# EAGLE library part 62533420621 (library Wurth_Elektronik_Electromechanic_Wire_to_Board_Connectors_rev15c)
WR-BHD 2.00mm Male SMT Box Header High Temperature, 34 Pins=>Code : Con_WTB_BHD_2.00_Male_SMT_62533420621 <http://katalog.we-online.de/media/thumbs2/eican/thb_Con_WTB_BHD_2.00_Male_SMT_6253xx20621_pf2.jpg> Details see: http://katalog.we-online.de/en/em/625_3xx_206_21 Created 2014-06-05, Karrer Zheng 2014 (C) Würth Elektronik
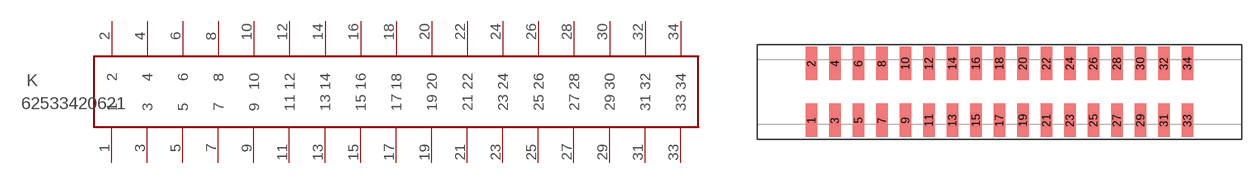
[diagram p271: symbol with the pads of 62533420621; footprint 62533420621]

Designator prefix K

## 62533420621  [62533420621]
1  1  pas
2  2  pas
3  3  pas
4  4  pas
5  5  pas
6  6  pas
7  7  pas
8  8  pas
9  9  pas
10  10  pas
11  11  pas
12  12  pas
13  13  pas
14  14  pas
15  15  pas
16  16  pas
17  17  pas
18  18  pas
19  19  pas
20  20  pas
21  21  pas
22  22  pas
23  23  pas
24  24  pas
25  25  pas
26  26  pas
27  27  pas
28  28  pas
29  29  pas
30  30  pas
31  31  pas
32  32  pas
33  33  pas
34  34  pas

## Footprint 62533420621 (pad centres in mm)
WRBHD-2.00mm Male SMT Box Header High Temperature,34 pins
smd 1 x 2.85: 1 -14,-2.425; 2 -14,2.425; 3 -12,-2.425; 4 -12,2.425; 5 -10,-2.425; 6 -10,2.425; 7 -8,-2.425; 8 -8,2.425; 9 -6,-2.425; 10 -6,2.425; 11 -4,-2.425; 12 -4,2.425; 13 -2,-2.425; 14 -2,2.425; 15 0,-2.425; 16 0,2.425; 17 2,-2.425; 18 2,2.425; 19 4,-2.425; 20 4,2.425; 21 6,-2.425; 22 6,2.425; 23 8,-2.425; 24 8,2.425; 25 10,-2.425; 26 10,2.425; 27 12,-2.425; 28 12,2.425; 29 14,-2.425; 30 14,2.425; 31 16,-2.425; 32 16,2.425; 33 18,-2.425; 34 18,2.425